# Altium footprint library pulse_oximeter.PcbLib: 11 footprints
Each footprint in its own frame and in the unit in brackets; x right, y up, seen from the top. Pads: shape width x height; smd on the part's side, far side on the other; paste and mask are expansions set on the pad; w line width, h text height; cw(c..) or ccw(c..) is an arc to the next point about the centre after c.
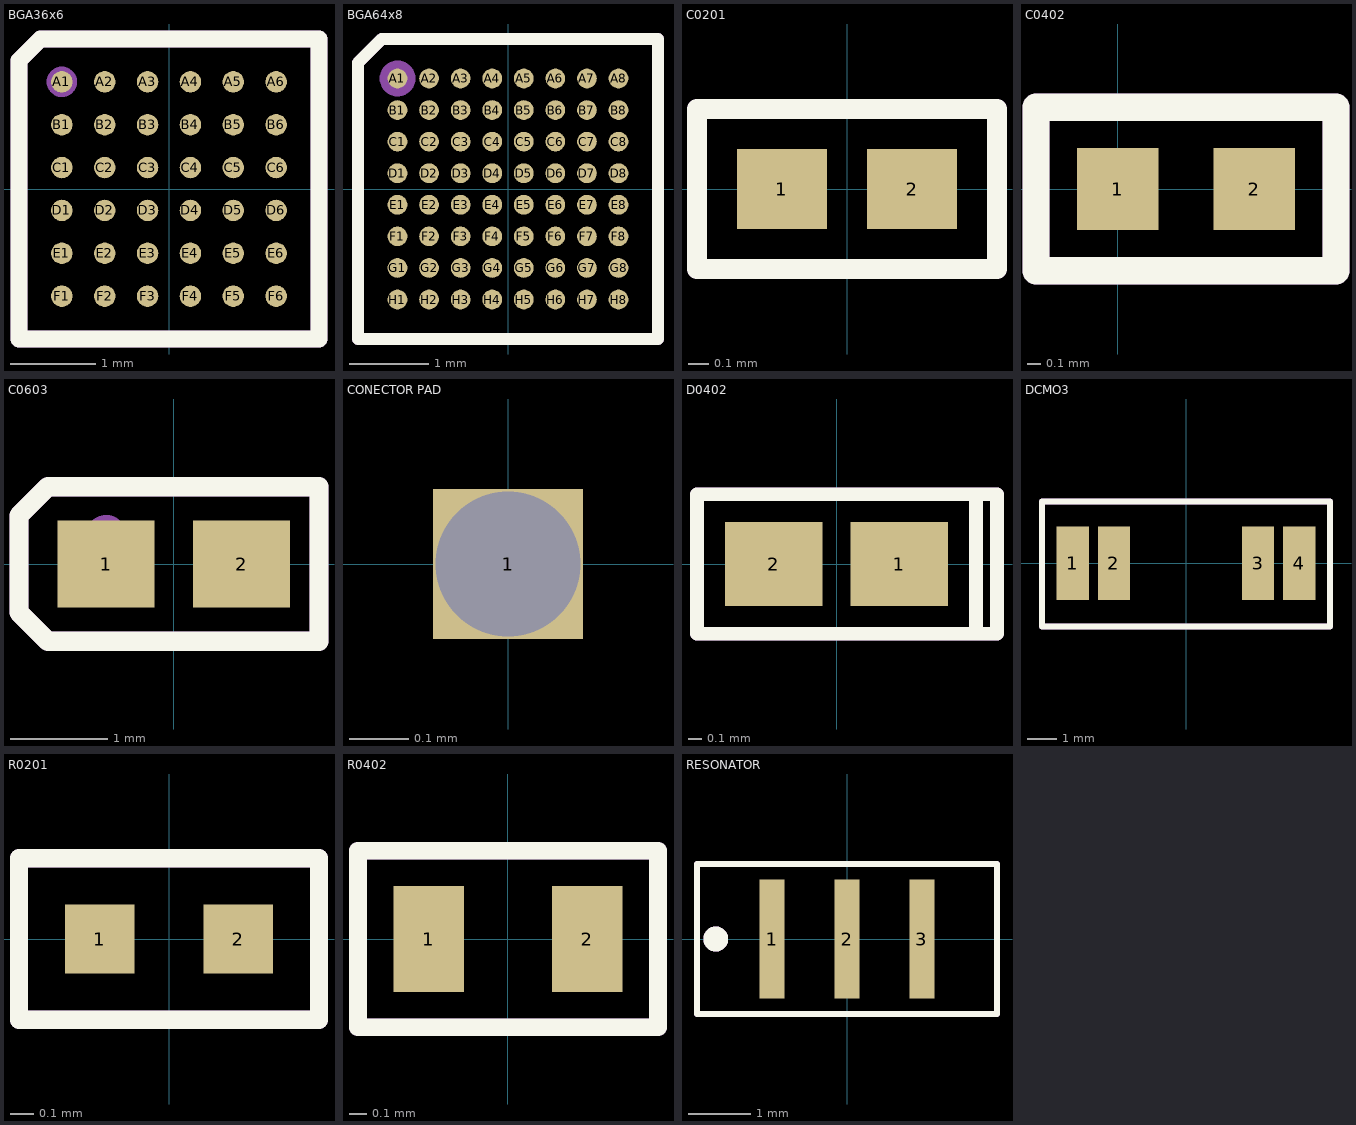
[diagram p0: the footprints below, top view; thin cyan lines are the x and y axes]

## BGA36x6 [mm]
pads (36):
  round 0.25 smd: A1(-1.25,1.25) A2(-0.75,1.25) A3(-0.25,1.25) A4(0.25,1.25) A5(0.75,1.25) A6(1.25,1.25) B1(-1.25,0.75) B2(-0.75,0.75) B3(-0.25,0.75) B4(0.25,0.75) B5(0.75,0.75) B6(1.25,0.75) C1(-1.25,0.25) C2(-0.75,0.25) C3(-0.25,0.25) C4(0.25,0.25) C5(0.75,0.25) C6(1.25,0.25) D1(-1.25,-0.25) D2(-0.75,-0.25) D3(-0.25,-0.25) D4(0.25,-0.25) D5(0.75,-0.25) D6(1.25,-0.25) E1(-1.25,-0.75) E2(-0.75,-0.75) E3(-0.25,-0.75) E4(0.25,-0.75) E5(0.75,-0.75) E6(1.25,-0.75) F1(-1.25,-1.25) F2(-0.75,-1.25) F3(-0.25,-1.25) F4(0.25,-1.25) F5(0.75,-1.25) F6(1.25,-1.25)
Top Overlay:
  lines w0.2: -1.75,-1.75 1.75,-1.75 1.75,1.75 -1.5,1.75 -1.75,1.5 -1.75,-1.75
ASM:
  circle w0.254: c-1.25,1.25 r0.05
  lines w0.2: -1.75,-1.75 1.75,-1.75 1.75,1.75 -1.5,1.75 -1.75,1.5 -1.75,-1.75
  text "'.Designator'" at -2,-0.5 h1
3D body "AFE4403YZPR.stp": height 0.5, standoff 0, extent -1.52,-1.52 1.52,1.52

## BGA64x8 [mm]
pads (64):
  round 0.25 smd: A1(-1.4,1.4) A2(-1,1.4) A3(-0.6,1.4) A4(-0.2,1.4) A5(0.2,1.4) A6(0.6,1.4) A7(1,1.4) A8(1.4,1.4) B1(-1.4,1) B2(-1,1) B3(-0.6,1) B4(-0.2,1) B5(0.2,1) B6(0.6,1) B7(1,1) B8(1.4,1) C1(-1.4,0.6) C2(-1,0.6) C3(-0.6,0.6) C4(-0.2,0.6) C5(0.2,0.6) C6(0.6,0.6) C7(1,0.6) C8(1.4,0.6) D1(-1.4,0.2) D2(-1,0.2) D3(-0.6,0.2) D4(-0.2,0.2) D5(0.2,0.2) D6(0.6,0.2) D7(1,0.2) D8(1.4,0.2) E1(-1.4,-0.2) E2(-1,-0.2) E3(-0.6,-0.2) E4(-0.2,-0.2) E5(0.2,-0.2) E6(0.6,-0.2) E7(1,-0.2) E8(1.4,-0.2) F1(-1.4,-0.6) F2(-1,-0.6) F3(-0.6,-0.6) F4(-0.2,-0.6) F5(0.2,-0.6) F6(0.6,-0.6) F7(1,-0.6) F8(1.4,-0.6) G1(-1.4,-1) G2(-1,-1) G3(-0.6,-1) G4(-0.2,-1) G5(0.2,-1) G6(0.6,-1) G7(1,-1) G8(1.4,-1) H1(-1.4,-1.4) H2(-1,-1.4) H3(-0.6,-1.4) H4(-0.2,-1.4) H5(0.2,-1.4) H6(0.6,-1.4) H7(1,-1.4) H8(1.4,-1.4)
Top Overlay:
  lines w0.15: -1.9,-1.9 -1.9,1.6 -1.6,1.9 1.9,1.9 1.9,-1.9 -1.9,-1.9
ASM:
  circle w0.254: c-1.4,1.4 r0.1
  lines w0.15: -1.9,-1.9 -1.9,1.6 -1.6,1.9 1.9,1.9 1.9,-1.9 -1.9,-1.9
  text "'.Designator'" at -2.1,-0.6 h1
3D body "MSP430F5528IYFFR.stp": height 0.63, standoff 0, extent -1.88,-1.88 1.88,1.88

## C0201 [mm]
pads (2):
  rect 0.45x0.4 smd: 1(-0.325,0) 2(0.325,0)
Top Overlay:
  lines w0.1: -0.75,-0.4 0.75,-0.4 0.75,0.4 -0.75,0.4 -0.75,-0.4
ASM:
  lines w0.1: -0.75,-0.4 -0.75,0.4 0.75,0.4 0.75,-0.4 -0.75,-0.4
  text "'.Designator'" at -0.65,-0.125 h0.3
3D body "GRM033R61A222KA01D.stp": height 0.34, standoff 0.01, extent -0.3,-0.15 0.3,0.15

## C0402 [mm]
pads (2):
  rect 0.6x0.6 smd: 1(0,0) 2(1,0)
Top Overlay:
  lines w0.2: -0.6,-0.6 -0.6,0.6 1.6,0.6 1.6,-0.6 -0.6,-0.6
ASM:
  lines w0.2: -0.6,-0.6 1.6,-0.6 1.6,0.6 -0.6,0.6 -0.6,-0.6
  text "'.Designator'" at -0.4,-0.2 h0.5
3D body "CGA2B3X5R1H104M050BB.stp": height 0.51, standoff 0.01, extent 0,-0.275 1,0.275

## C0603 [mm]
pads (2):
  rect 1x0.9 smd: 1(-0.7,0) 2(0.7,0)
Top Overlay:
  lines w0.2: -1.6,-0.5 -1.6,0.5 -1.3,0.8 1.5,0.8 1.5,-0.8 -1.3,-0.8 -1.6,-0.5
ASM:
  circle w0.254: c-0.7,0.3 r0.08
  lines w0.2: -1.6,-0.5 -1.3,-0.8 1.5,-0.8 1.5,0.8 -1.3,0.8 -1.6,0.5 -1.6,-0.5
  text "'.Designator'" at -1.3,-0.4 h0.8
3D body "TCM1A225M8R.stp": height 0.91, standoff 0.01, extent -0.8,-0.425 0.8,0.425

## CONECTOR PAD [mil]
pads (1):
  rect 10x10 hole 9.69: 1(0,0)

## D0402 [mm]
pads (2):
  rect 0.7x0.6 smd: 1(0.45,0) 2(-0.45,0)
Top Overlay:
  lines w0.1: 1,-0.5 1.15,-0.5 1.15,0.5 1,0.5 ; 1,-0.5 -1,-0.5 -1,0.5 1,0.5 ; 1,-0.5 1,0.5
ASM:
  lines w0.1: 1,-0.5 1.15,-0.5 1.15,0.5 1,0.5 ; 1,-0.5 1,0.5 ; 1,-0.5 -1,-0.5 -1,0.5 1,0.5
  text "'.Designator'" at -0.8,-0.2 h0.4
3D body "User Library-User Library-LED_1006_G.STEP": height 0.2, standoff 0, extent -0.5,-0.3 0.5,0.3

## DCMO3 [mm]
pads (4):
  rect 1.1x2.5 smd: 1(-3.85,0) 2(-2.45,0) 3(2.45,0) 4(3.85,0)
Top Overlay:
  lines w0.2: -4.9,-2.15 4.9,-2.15 4.9,2.1 -4.9,2.1 -4.9,-2.15
ASM:
  lines w0.2: -4.9,-2.15 4.9,-2.15 4.9,2.1 -4.9,2.1 -4.9,-2.15
  text "'.Designator'" at -4.5,-0.7 h1.5

## R0201 [mm]
pads (2):
  rect 0.3x0.3 smd: 1(-0.3,0) 2(0.3,0)
Top Overlay:
  lines w0.08: -0.65,-0.35 -0.65,0.35 0.65,0.35 0.65,-0.35 -0.65,-0.35
ASM:
  lines w0.08: -0.65,-0.35 -0.65,0.35 0.65,0.35 0.65,-0.35 -0.65,-0.35
  text "'.Designator'" at -0.425,-0.075 h0.2
3D body "ERJ-1GN0R00C.stp": height 0.24, standoff 0.01, extent -0.3,-0.15 0.3,0.15

## R0402 [mm]
pads (2):
  rect 0.4x0.6 smd: 1(-0.45,0) 2(0.45,0)
Top Overlay:
  lines w0.1: -0.85,-0.5 0.85,-0.5 0.85,0.5 -0.85,0.5 -0.85,-0.5
ASM:
  lines w0.1: -0.85,-0.5 -0.85,0.5 0.85,0.5 0.85,-0.5 -0.85,-0.5
  text "'.Designator'" at -0.85,-0.25 h0.5
3D body "CRCW04021M00JNEDC.STEP": height 0.36, standoff 0.01, extent -0.5,-0.25 0.5,0.25

## RESONATOR [mm]
pads (3):
  rect 0.4x1.9 smd: 1(-1.2,0) 2(0,0) 3(1.2,0)
Top Overlay:
  circle w0.2: c-2.1,0 r0.1
  lines w0.1: -2.4,-1.2 -2.4,1.2 2.4,1.2 2.4,-1.2 -2.4,-1.2
ASM:
  circle w0.2: c-2.1,0 r0.1
  lines w0.1: -2.4,-1.2 -2.4,1.2 2.4,1.2 2.4,-1.2 -2.4,-1.2
  text "'.Designator'" at -2.4,-0.4 h0.8
3D body "step_temp.STEP": height 1.2, standoff 0, extent -2.25,-1 2.25,1